# Altium schematic symbol library msp430.SCHLIB: 13 symbols
Pins are listed as number, name and electrical type; pins without a type are passive.

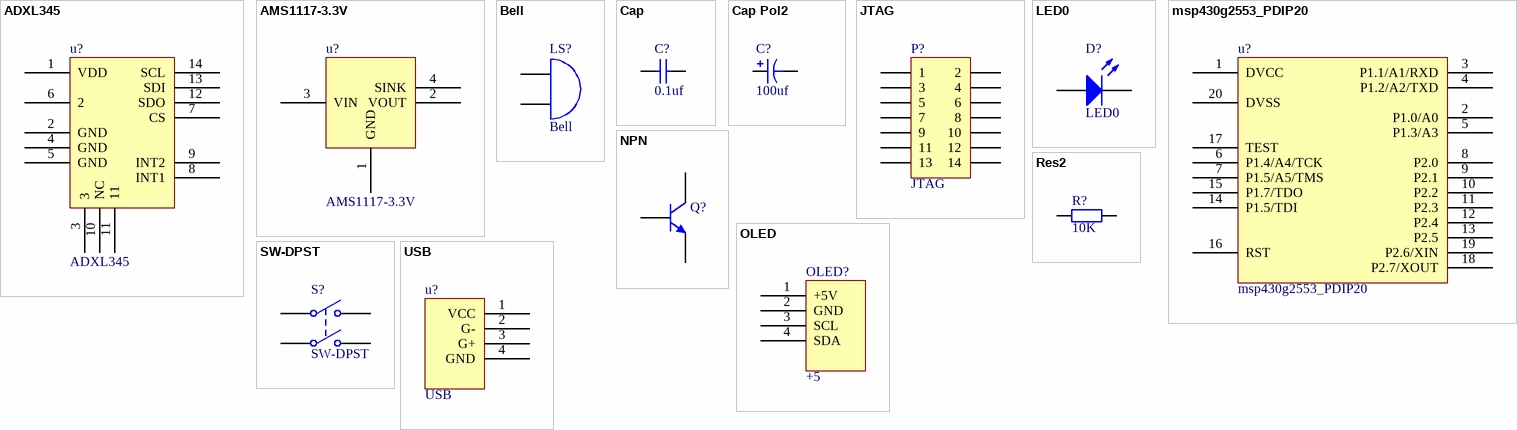
[diagram p0: symbols ADXL345 to USB]

## ADXL345
designator u?
footprint ADXL345
pins: 1 VDD, 2 GND, 3, 4 GND, 5 GND, 6 2, 7 CS, 8 INT1, 9 INT2, 10 NC, 11, 12 SDO, 13 SDI, 14 SCL

## AMS1117-3.3V
designator u?
footprint SOT223_N (SOT223, 4-Leads, Body 6.5x3.5mm, Pitch 2.3mm, Lead Span 7mm, IPC Medium Density)
pins: 1 GND, 2 VOUT, 3 VIN, 4 SINK

## Bell
designator LS?
Electrical Bell; Published: 24-Mar-1999; LatestRevisionDate: 17-Jul-2002; LatestRevisionNote: Re-released for DXP Platform.; PackageReference: PIN2; Publisher: Altium Limited
footprint bell (Photosensitive Diode; 2 Leads)
pins: 1 A, 2 B

## Cap
designator C?  value 0.1uf  (hidden comment: Cap)
Capacitor; Published: 8-Jun-2000; LatestRevisionDate: 17-Jul-2002; LatestRevisionNote: Re-released for DXP Platform.; PackageReference: RAD-0.3; Publisher: Altium Limited; PackageDescription: Radial Cap, Thru-Hole; 2 Leads; 0.3 in Pin Spacing
simulation model CAP (Capacitor)
signal-integrity model Cap
footprint 6-0805_N (Chip Resistor, Body 2.0x1.2mm, IPC Medium Density)
pins: 1, 2

## Cap Pol2
designator C?  value 100uf  (hidden comment: Cap Pol2)
Polarized Capacitor (Axial); Published: 8-Jun-2000; LatestRevisionDate: 17-Jul-2002; LatestRevisionNote: Re-released for DXP Platform.; PackageReference: POLAR0.8; Publisher: Altium Limited; PackageDescription: Polarized Capacitor; 2 Leads
simulation model CAP (Capacitor)
signal-integrity model Cap Pol
footprint Cap2_polar
pins: 1, 2
1 alternate drawing of the same symbol

## JTAG
designator P?
Header, 7-Pin, Dual row; LatestRevisionDate: 17-Jul-2002; LatestRevisionNote: Re-released for DXP Platform.; Publisher: Altium Limited
signal-integrity model Connector
footprint HDR2X7H (Connector; Header; 7x2 Position; Right Angle)
pins: 1, 2, 3, 4, 5, 6, 7, 8, 9, 10, 11, 12, 13, 14

## LED0
designator D?
Typical INFRARED GaAs LED; Published: 8-Jun-2000; LatestRevisionDate: 08-Jul-2005; LatestRevisionNote: Mech Layer 1 removed.; PackageReference: LED-0; Publisher: Altium Limited; PackageDescription: LED; 2 Leads
simulation model LED0 (Diode)
footprint 6-0805_N - duplicate (Chip Resistor, Body 2.0x1.2mm, IPC Medium Density)
pins: 1 A, 2 K

## msp430g2553_PDIP20
designator u?
footprint DIP20
pins: 1 DVCC, 2 P1.0/A0, 3 P1.1/A1/RXD, 4 P1.2/A2/TXD, 5 P1.3/A3, 6 P1.4/A4/TCK, 7 P1.5/A5/TMS, 8 P2.0, 9 P2.1, 10 P2.2, 11 P2.3, 12 P2.4, 13 P2.5, 14 P1.5/TDI, 15 P1.7/TDO, 16 RST, 17 TEST, 18 P2.7/XOUT, 19 P2.6/XIN, 20 DVSS

## NPN
designator Q?  (value not drawn)
NPN Bipolar Transistor; Published: 8-Jun-2000; LatestRevisionDate: 17-Jul-2002; LatestRevisionNote: Re-released for DXP Platform.; PackageReference: TO-226-AA; Publisher: Altium Limited; PackageDescription: TO, Flat Index; 3 In-Line, Axial Leads; Body Dia. 4.8mm; Leads 0.55 x 0.51 mm (max); Code_JEDEC: TO-226-AA
simulation model NPN
signal-integrity model NPN
footprint SOT23_N (SOT23, 3-Leads, Body 2.9x1.3mm, Pitch 0.95mm, Lead Span 2.3mm - Reverse Pinning, IPC Medium Density)
pins: 1 C, 2 B, 3 E

## OLED
designator OLED?, comment +5
footprint OLED
pins: 1 +5V, 2 GND, 3 SCL, 4 SDA

## Res2
designator R?  value 10K  (hidden comment: Res2)
Resistor; Published: 8-Jun-2000; LatestRevisionDate: 17-Jul-2002; LatestRevisionNote: Re-released for DXP Platform.; PackageReference: AXIAL-0.4; Publisher: Altium Limited; PackageDescription: Axial Device, Thru-Hole; 2 Leads; 0.4 in Pin Spacing
simulation model RESISTOR (Resistor)
signal-integrity model Res
footprint 6-0805_N (Chip Resistor, Body 2.0x1.2mm, IPC Medium Density)
pins: 1, 2

## SW-DPST
designator S?
Double-Pole, Single-Throw Switch; Published: 24-Mar-1999; LatestRevisionDate: 17-Jul-2002; LatestRevisionNote: Re-released for DXP Platform.; PackageReference: DPST-4; Publisher: Altium Limited; PackageDescription: Switch; 4 Leads
footprint DPST-4 (Switch; 4 Leads)
pins: 1 COMMON1, 2 COMMON2, 3 NO1, 4 NO2

## USB
designator u?
footprint USB2.5-2H4 (Connector; USB1.1, Series A, Reverse Type, Thru-Hole; 4 Position; Right Angle)
pins: 1 VCC, 2 G-, 3 G+, 4 GND